# Altium footprint library Copy of F280041.PcbLib: 3 footprints
Each footprint in its own frame and in the unit in brackets; x right, y up, seen from the top. Pads: shape width x height; smd on the part's side, far side on the other; paste and mask are expansions set on the pad; w line width, h text height; cw(c..) or ccw(c..) is an arc to the next point about the centre after c.
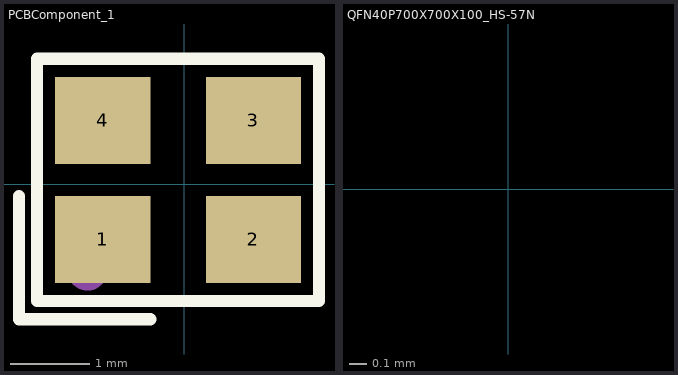
[diagram p0: the footprints below, top view; thin cyan lines are the x and y axes]

## PCBComponent_1 [mm]
pads (4):
  rect 1.2x1.1 smd: 1(-1.026,-0.694) 2(0.874,-0.694) 3(0.874,0.806) 4(-1.026,0.806)
Top Overlay:
  lines w0.152: -2.083,-0.145 -2.083,-1.702 -0.427,-1.702 ; -1.855,-1.473 1.702,-1.473 1.702,1.584 -1.855,1.584 -1.855,-1.473
Mechanical 15:
  circle w0.254: c-1.219,-1.087 r0.127

## QFN40P700X700X100_HS-57N [mm] "QFN, 56-Leads, Body 7.00x7.00mm, Pitch 0.40mm, Thermal Pad 5.35x5.35mm, IPC Medium Density"
height 1
pads (8):
  rect 0x0 smd: 57(-0.85,0) 58(-0.35,0) 59(0,0.85) 60(0,0.35) 61(0.85,0) 62(0.35,0) 63(0,-0.85) 64(0,-0.35)

## QFN50P400X400X80_HS-15N [mm] "QFN, 14-Leads, Body 4.00x4.00mm, Pitch 0.50mm, Thermal Pad 4.00x2.20mm, IPC Medium Density"
height 0.8